# Altium schematic symbol library RF - Antennas.SchLib: 1 symbol
Pins are listed as number, name and electrical type; pins without a type are passive.

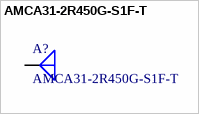
[diagram p0: symbol AMCA31-2R450G-S1F-T]

## AMCA31-2R450G-S1F-T
designator A?
ANTENNA CHIP DIELECTRIC 2450MHZ; Manufacturer: Abracon LLC; Frequency Group: UHF (2 GHz ~ 3 GHz); Frequency (Center/Band): 2.4GHz; Frequency Range: 2.405GHz ~ 2.495GHz; VSWR: 2; Gain: 0.5dBi; Power - Max: 3W; Supplier 1: Digi-Key; Supplier Part Number 1: 535-12386-1-ND; Manufacturer Part Number: AMCA31-2R450G-S1F-T; RoHS: RoHS Compliant; Category: RF/IF and RFID; Stock 1: 3494; Pricing 1: 1=0.48, 10=0.408, 25=0.3568, 100=0.3059, 250=0.26512, 500=0.22434 (USD); Packaging: Cut Tape (CT); Part Status: Active; Antenna Type: Chip; Return Loss: -; Features: -; Termination: Solder; Ingress Protection: -; Mounting Type: Surface Mount; Height (Max): 0.047" (1.20mm); Applications: Bluetooth, WLAN; ComponentLink1URL: http://www.abracon.com/chip-antenna/AMCA31-2R450G-S1F-T.pdf; ComponentLink1Description: http://www.abracon.com/chip-antenna/AMCA31-2R450G-S1F-T.pdf
footprint RF ANT 32x16
pins: 1, 2 hidden